# EAGLE library part SX1262IMLTRT (library SX1262IMLTRT)
RF Transceiver LoRa, sub-GHz RF Transceiver 22dBm PA Source: Datasheet <http://www.mouser.com/datasheet/2/761/DS_SX1261-2_V1.1-1307803.pdf>
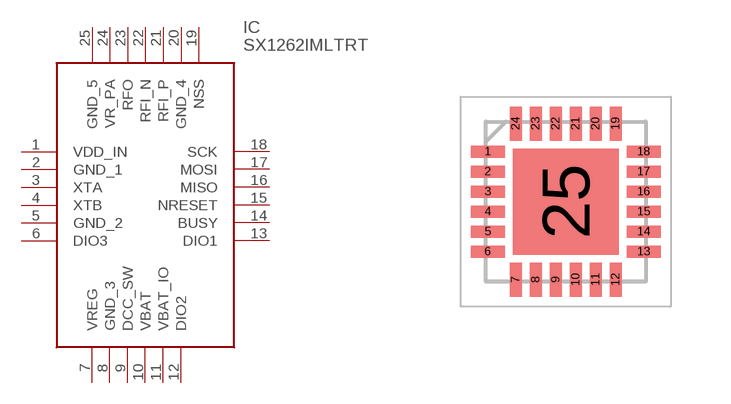
[diagram p0: symbol with the pads of QFN50P400X400X100-25N; footprint QFN50P400X400X100-25N]

Designator prefix IC

## SX1262IMLTRT (Arrow_Part_Number: SX1262IMLTRT; Arrow_Price-Stock: https://www.arrow.com/en/products/sx1262imltrt/semtech.html?utm_currency=USD&region=nac; Description: RF Transceiver LoRa, sub-GHz RF Transceiver 22dBm PA; Height: 1mm; Manufacturer_Name: SEMTECH; Manufacturer_Part_Number: SX1262IMLTRT; Mouser_Part_Number: 947-SX1262IMLTRT; Mouser_Price-Stock: https://www.mouser.co.uk/ProductDetail/Semtech/SX1262IMLTRT?qs=XFmntM7Yc9eYt6yxTPughQ%3D%3D)  [QFN50P400X400X100-25N]
1  VDD_IN  in
2  GND_1  pwr
3  XTA  in
4  XTB  in
5  GND_2  pwr
6  DIO3
7  VREG  out
8  GND_3  pwr
9  DCC_SW  out
10  VBAT  in
11  VBAT_IO  in
12  DIO2
13  DIO1
14  BUSY
15  NRESET
16  MISO  out
17  MOSI  in
18  SCK  in
19  NSS  in
20  GND_4  pwr
21  RFI_P  in
22  RFI_N  in
23  RFO  out
24  VR_PA
25  GND_5  pwr

## Footprint QFN50P400X400X100-25N (pad centres in mm)
QFN 4x4
smd 0.85 x 0.3: 1 -1.95,1.25; 2 -1.95,0.75; 3 -1.95,0.25; 4 -1.95,-0.25; 5 -1.95,-0.75; 6 -1.95,-1.25; 13 1.95,-1.25; 14 1.95,-0.75; 15 1.95,-0.25; 16 1.95,0.25; 17 1.95,0.75; 18 1.95,1.25
smd 0.3 x 0.85: 7 -1.25,-1.95; 8 -0.75,-1.95; 9 -0.25,-1.95; 10 0.25,-1.95; 11 0.75,-1.95; 12 1.25,-1.95; 19 1.25,1.95; 20 0.75,1.95; 21 0.25,1.95; 22 -0.25,1.95; 23 -0.75,1.95; 24 -1.25,1.95
smd 2.65 x 2.65: 25 0,0